# Altium integrated library protection_circuits.IntLib: 3 symbols
Pins are listed as number, name and electrical type; pins without a type are passive.

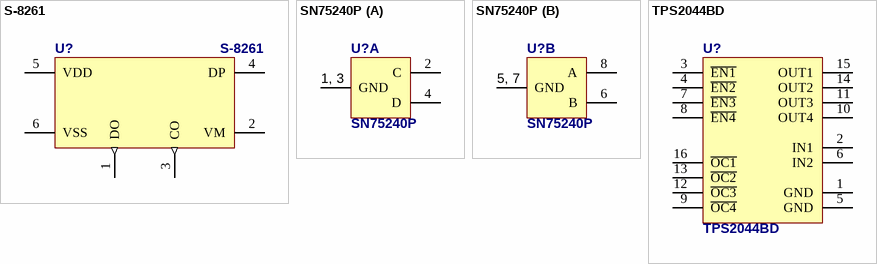
[diagram p0: symbols S-8261 to TPS2044BD]

## S-8261
designator U?
BATTERY PROTECTION IC FOR 1-CELL PACK
footprint SOT-23-6 (, AKA: SOT753 (NXP), TSOP5 (NXP))
pins: 1 DO (out) "FET gate control pin for discharge (CMOS output)", 2 VM "Voltage detection pin between VM and VSS (Overcurrent detection pin)", 3 CO (out) "FET gate control pin for charge (CMOS output)", 4 DP "Test pin for delay time measurement (Do Not Connect)", 5 VDD "Positive power input pin", 6 VSS "Negative power input pin"

## SN75240P
designator U?
USB Port Dual Transient Suppressor
footprint TSSOP8 (JEDEC MO-153 AA (TSSOP-8))
part A pins: 1 GND, 2 C, 3 GND, 4 D
part B pins: 5 GND, 6 B, 7 GND, 8 A
part A text: 1, 3
part B text: 5, 7

## TPS2044BD
designator U?
Quad Current-Limited Power Distribution Switch
footprint SO16 (Small Outline; 16 Leads; Body Width 3.9 mm; Pitch 1.27 mm)
pins: 1 GND, 2 IN1, 3 ~{EN1}, 4 ~{EN2}, 5 GND, 6 IN2, 7 ~{EN3}, 8 ~{EN4}, 9 ~{OC4}, 10 OUT4, 11 OUT3, 12 ~{OC3}, 13 ~{OC2}, 14 OUT2, 15 OUT1, 16 ~{OC1}